# Altium footprint library PM3_Boscloner.PcbLib: 27 footprints (part 1 of 2)
Each footprint in its own frame and in the unit in brackets; x right, y up, seen from the top. Pads: shape width x height; smd on the part's side, far side on the other; paste and mask are expansions set on the pad; w line width, h text height; cw(c..) or ccw(c..) is an arc to the next point about the centre after c.
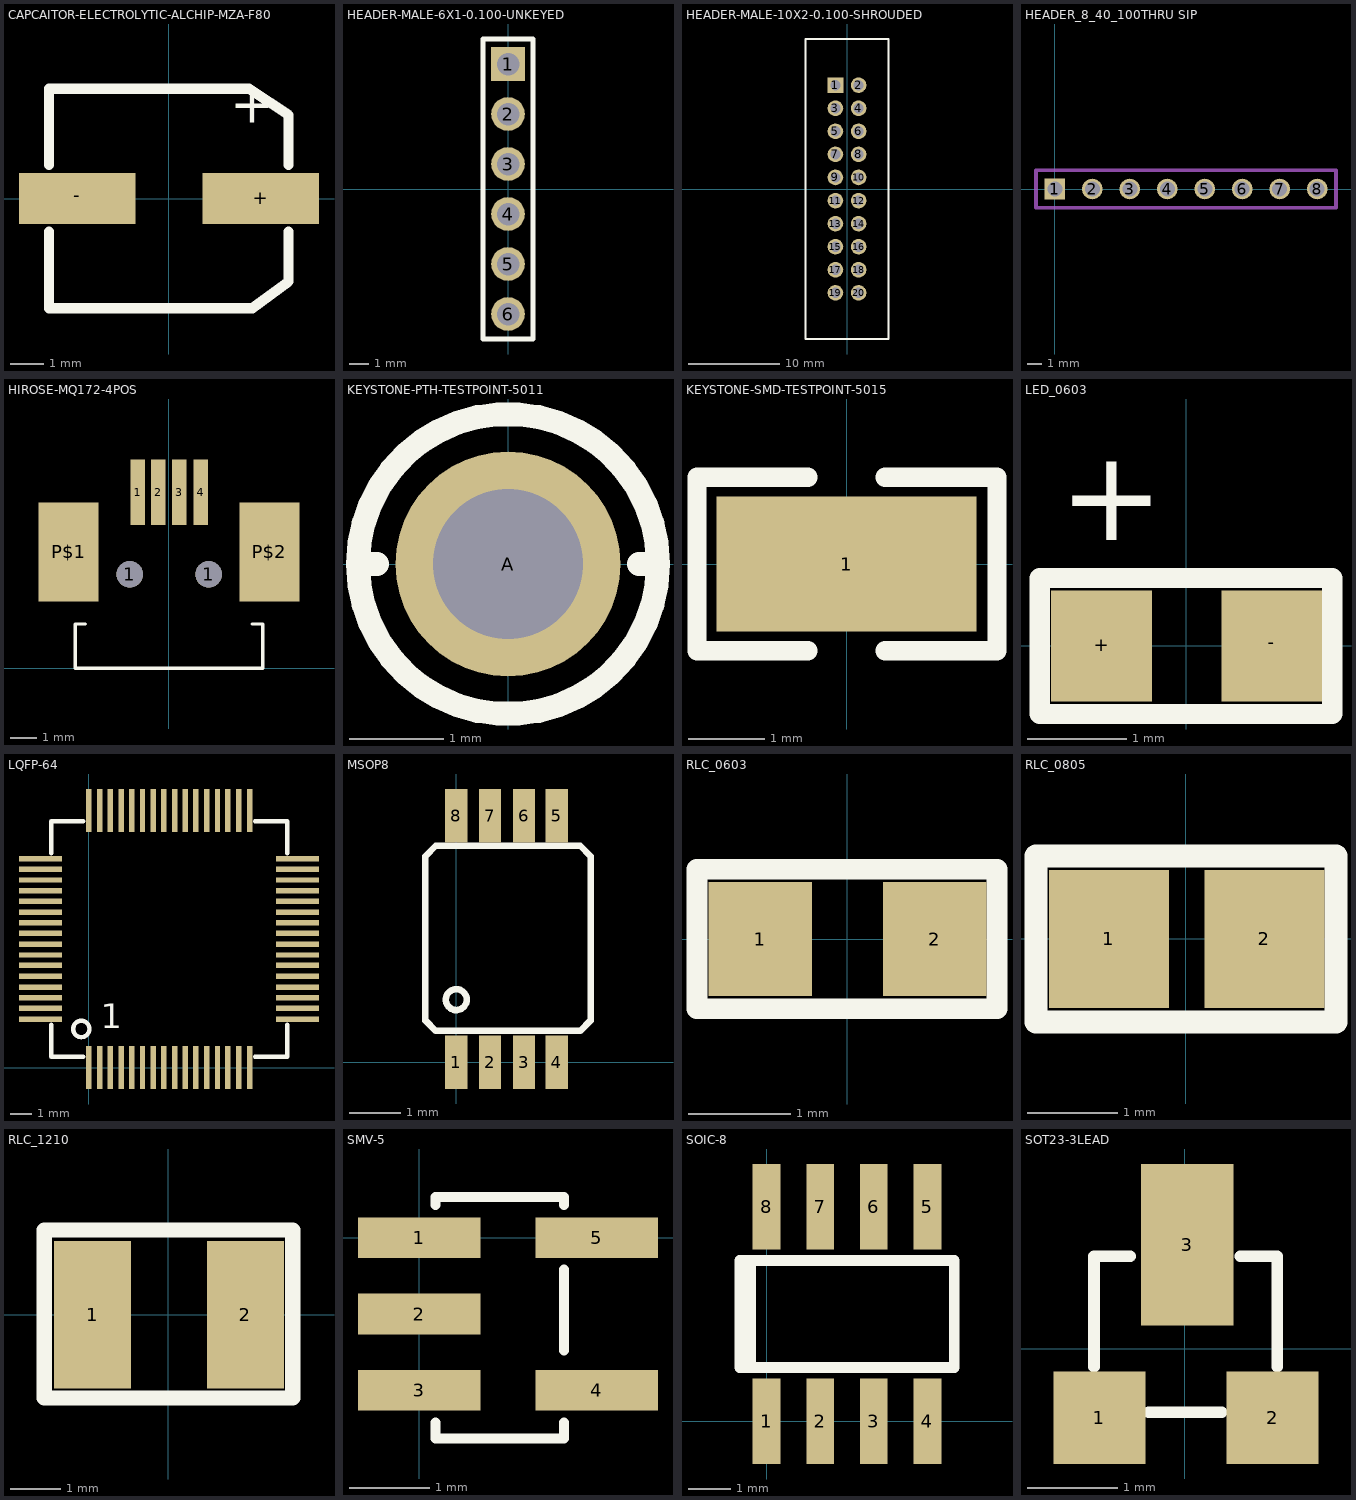
[diagram p0: the footprints below, top view; thin cyan lines are the x and y axes]

## CAPCAITOR-ELECTROLYTIC-ALCHIP-MZA-F80 [mil] "CAPCAITOR-ELECTROLYTIC-ALCHIP-MZA-F80"
pads (2):
  rect 138x60 smd: +(109,0) -(-108.27,0)
Top Overlay:
  lines w12: -141.73,-39.37 -141.73,-129.92 95,-129.92 ; -141.73,40 -141.73,130 95,130 142,99 142,40 ; 99,-129.92 142,-98.43 142,-39.37
  text "+" at 73,75 h77.5

## HEADER-MALE-6X1-0.100-UNKEYED [mil] "HEADER-MALE-6X1-0.100-UNKEYED"
pads (6):
  rect 67.5x67.5 hole 45: 1(0,250)
  round 67.5 hole 45: 2(0,150) 3(0,50) 4(0,-50) 5(0,-150) 6(0,-250)
Top Overlay:
  lines w10: -50,-300 50,-300 50,300 -50,300 -50,-300

## HEADER-MALE-10X2-0.100-SHROUDED [mil] "HEADER-MALE-10X2-0.100-SHROUDED"
pads (20):
  rect 67.5x67.5 hole 45: 1(-50,450)
  round 67.5 hole 45: 2(50,450) 3(-50,350) 4(50,350) 5(-50,250) 6(50,250) 7(-50,150) 8(50,150) 9(-50,50) 10(50,50) 11(-50,-50) 12(50,-50) 13(-50,-150) 14(50,-150) 15(-50,-250) 16(50,-250) 17(-50,-350) 18(50,-350) 19(-50,-450) 20(50,-450)
Top Overlay:
  lines w10: -180,-650 180,-650 180,650 -180,650 -180,-650

## HEADER_8_40_100THRU SIP [mil]
pads (8):
  rect 55x55 hole 40: 1(0,0)
  round 55 hole 40: 2(100,0) 3(200,0) 4(300,0) 5(400,0) 6(500,0) 7(600,0) 8(700,0)
Mechanical 15:
  lines w10: -50,-50 750,-50 750,50 -50,50 -50,-50

## HIROSE-MQ172-4POS [mil] "HIROSE-MQ172-4POS"
pads (8):
  round 40 hole 40: 1(-59.06,142) 1(60,142)
  rect 22x99 smd: 1(-47.24,266) 2(-15.75,266) 3(16,266) 4(48,266)
  rect 91x150 smd: P$1(-151.57,176) P$2(152,176)
Top Overlay:
  lines w5: -125.98,67 -141.73,67 -141.73,0 142,0 142,67 126,67

## KEYSTONE-PTH-TESTPOINT-5011 [mil] "KEYSTONE-PTH-TESTPOINT-5011"
pads (1):
  round 94.5 hole 63: A(0,0)
Top Overlay:
  circle w10: c0,0 r63
  lines w10: -60,0 -55,0 ; 55,0 60,0

## KEYSTONE-SMD-TESTPOINT-5015 [mil] "KEYSTONE-SMD-TESTPOINT-5015"
pads (1):
  rect 135x70 smd: 1(0,0)
Top Overlay:
  lines w10: -20,-45 -77.5,-45 -77.5,45 -20,45 ; 20,-45 78,-45 78,45 20,45

## LED_0603 [mil] "LED_0603"
pads (2):
  rect 40x44 smd: +(-33.46,0) -(34,0)
Top Overlay:
  lines w8: -58,-27 58,-27 58,27 -58,27 -58,-27
  text "+" at -50.31,30 h62

## LQFP-64 [mil] "LQFP-64"
pads (64):
  rect 10x79 smd: 1(0,0) 2(20,0) 3(40,0) 4(60,0) 5(79,0) 6(99,0) 7(119,0) 8(138,0) 9(158,0) 10(178,0) 11(197,0) 12(217,0) 13(237,0) 14(256,0) 15(276,0) 16(296,0) 33(296,473) 34(276,473) 35(256,473) 36(237,473) 37(217,473) 38(197,473) 39(178,473) 40(158,473) 41(138,473) 42(119,473) 43(99,473) 44(79,473) 45(60,473) 46(40,473) 47(20,473) 48(0,473)
  rect 79x10 smd: 17(384,89) 18(384,109) 19(384,128) 20(384,148) 21(384,168) 22(384,188) 23(384,207) 24(384,227) 25(384,247) 26(384,266) 27(384,286) 28(384,306) 29(384,325) 30(384,345) 31(384,365) 32(384,384) 49(-88.58,384) 50(-88.58,365) 51(-88.58,345) 52(-88.58,325) 53(-88.58,306) 54(-88.58,286) 55(-88.58,266) 56(-88.58,247) 57(-88.58,227) 58(-88.58,207) 59(-88.58,188) 60(-88.58,168) 61(-88.58,148) 62(-88.58,128) 63(-88.58,109) 64(-88.58,89)
Top Overlay:
  lines w8: -68.9,79 -68.9,20 -9.84,20 ; -68.9,394 -68.9,453 -9.84,453 ; 306,20 365,20 365,79 ; 306,453 365,453 365,394 ; -28.65,71 ccw(c-13.65,71) -28.65,71
  text "1" at 22,57 h77.5

## MSOP8 [mil] "MSOP8"
pads (8):
  rect 17x41 smd: 1(0,0) 2(26,0) 3(52,0) 4(77,0) 5(77,189) 6(52,189) 7(26,189) 8(0,189)
Top Overlay:
  circle w5: c0,48 r8
  lines w5: -23.62,32 -23.62,158 -15.75,166 95,166 103,158 103,32 95,24 -15.75,24 -23.62,32

## RLC_0603 [mil] "RLC_0603"
pads (2):
  rect 40x44 smd: 1(-33.46,0) 2(34,0)
Top Overlay:
  lines w8: -58,-27 58,-27 58,27 -58,27 -58,-27

## RLC_0805 [mil] "RLC_0805"
pads (2):
  rect 52x60 smd: 1(-33.46,0) 2(34,0)
Top Overlay:
  lines w10: -65,-36 65,-36 65,36 -65,36 -65,-36

## RLC_1210 [mil] "RLC_1210"
pads (2):
  rect 60x115 smd: 1(-59.06,0) 2(60,0)
Top Overlay:
  lines w12: -97,-65 97,-65 97,66 -97,66 -97,-65

## SMV-5 [mil] "SMV-5"
pads (5):
  rect 60x20 smd: 1(0,0) 2(0,-37.4) 3(0,-74.8) 4(87,-74.8) 5(87,0)
Top Overlay:
  lines w5: 8,-90.55 8,-98.43 71,-98.43 71,-90.55 ; 8,16 8,20 71,20 71,16 ; 71,-55.12 71,-23.62 71,-15.75

## SOIC-8 [mil] "SOIC-8"
pads (8):
  rect 26x80 smd: 1(0,0) 2(50,0) 3(100,0) 4(150,0) 5(150,200) 6(100,200) 7(50,200) 8(0,200)
Top Overlay:
  lines w10: -15,50 -25,50 -25,150 -15,150 ; -15,50 -5,50 5,50 175,50 175,150 15,150 5,150 -5,150 -15,150 ; -15,50 -15,150

## SOT23-3LEAD [mil] "SOT23-3LEAD"
pads (3):
  rect 40x40 smd: 1(-37,-30) 2(38,-30)
  rect 40x70 smd: 3(1,45)
Top Overlay:
  lines w5: -39.37,-7.87 -39.37,40 -23.62,40 ; -15.75,-27.56 16,-27.56 ; 24,40 40,40 40,-7.87